# Altium footprint library Component.PcbLib: 79 footprints (part 2 of 5)
Each footprint in its own frame and in the unit in brackets; x right, y up, seen from the top. Pads: shape width x height; smd on the part's side, far side on the other; paste and mask are expansions set on the pad; w line width, h text height; cw(c..) or ccw(c..) is an arc to the next point about the centre after c.
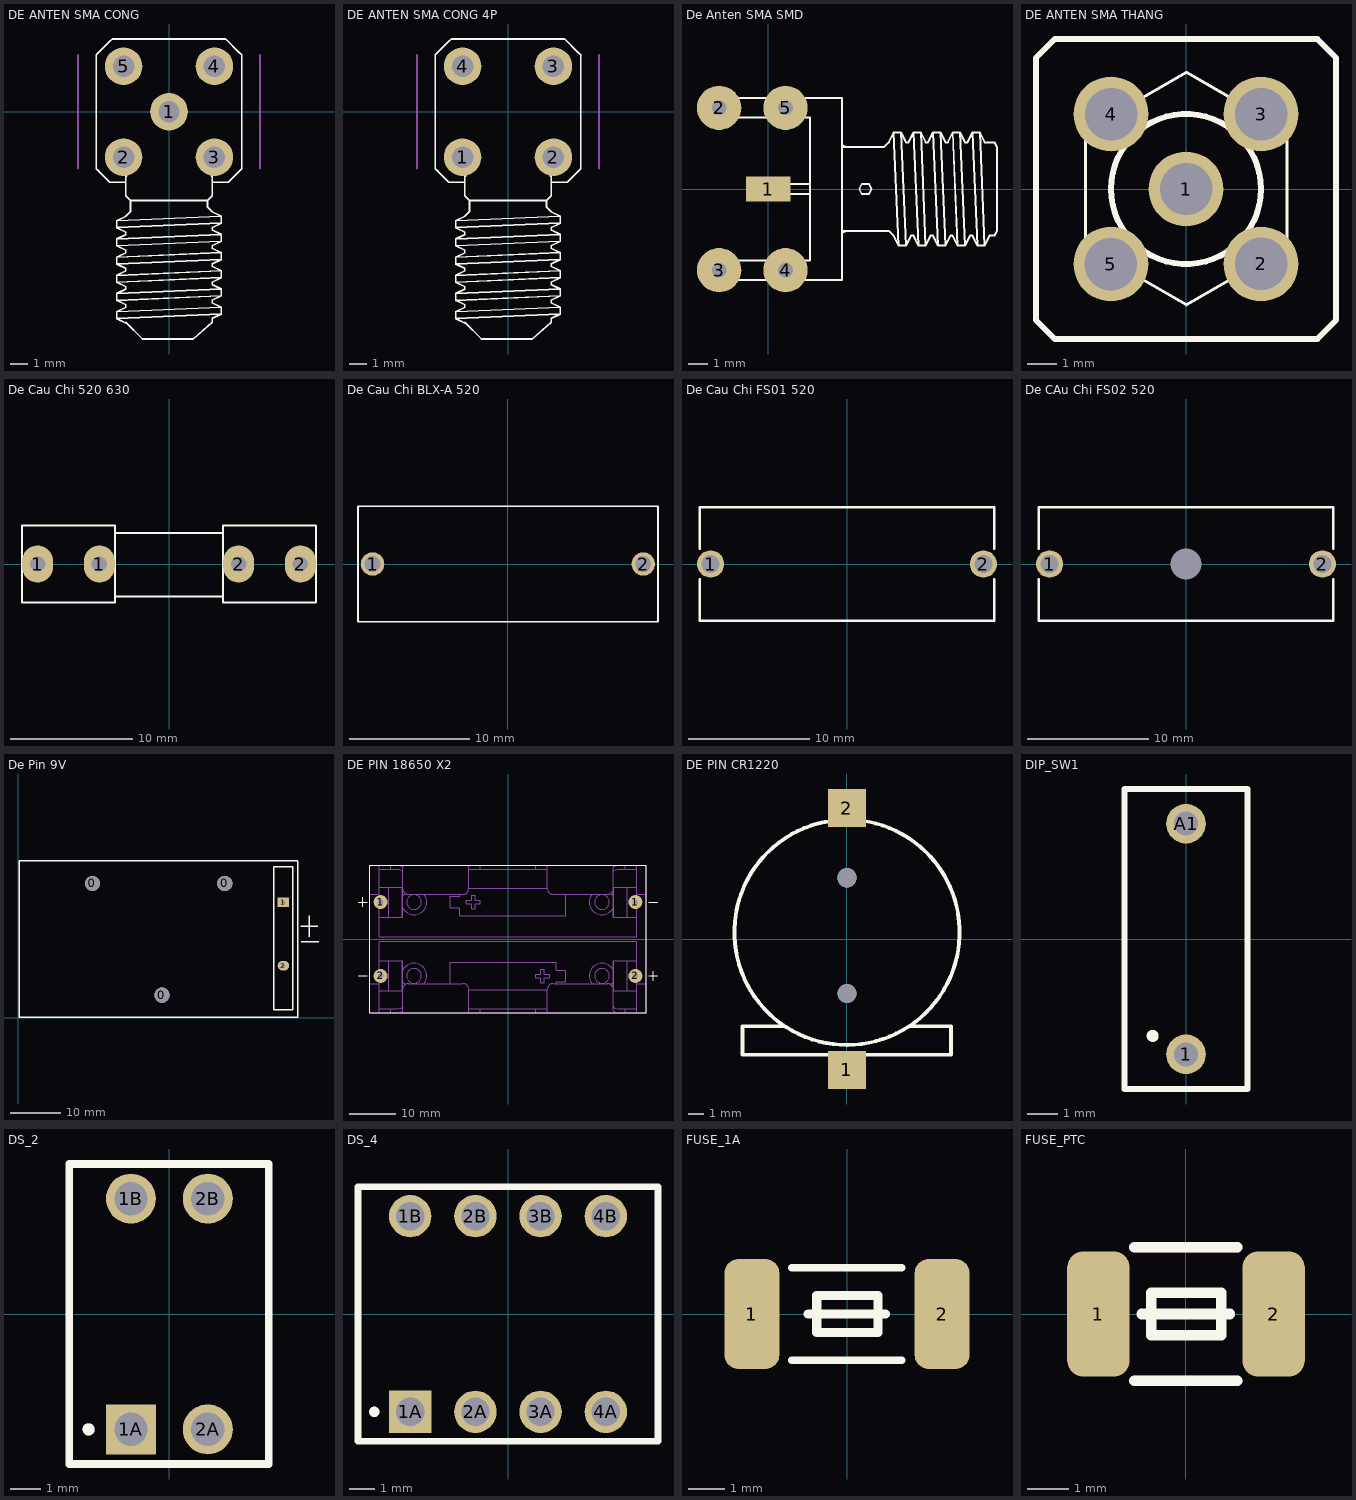
[diagram p1: the footprints below, top view; thin cyan lines are the x and y axes]

## DE ANTEN SMA CONG [mm]
pads (5):
  round 2.1 hole 1.2: 1(0,0) 2(-2.54,-2.54) 3(2.54,-2.54) 4(2.54,2.54) 5(-2.54,2.54)
Top Overlay:
  lines w0.102: -3.937,-3.302 -4.064,-3.175 ; -2.413,-11.811 -2.921,-11.557 ; -2.413,-11.769 -1.482,-12.7 1.355,-12.7 2.413,-11.769 2.413,-11.557 2.921,-11.303 ; -2.413,-3.937 -3.302,-3.937 -4.064,-3.175 ; -2.371,-3.598 -2.413,-3.556 -2.413,-4.699 -2.159,-4.953 ; 2.371,-3.598 2.413,-3.556 2.413,-4.699 2.159,-4.953 ; 2.413,-3.937 3.302,-3.937 4.064,-3.175 4.064,2.032 ; 4.064,1.905 4.064,3.175 3.937,3.302 3.175,4.064 -3.175,4.064 -3.302,3.937 -4.064,3.175 -4.064,-3.175 ; -2.921,-11.557 2.921,-11.303 ; -2.921,-11.557 -2.921,-11.176 ; -2.921,-11.176 2.921,-10.922 ; -2.921,-11.176 -2.413,-10.922 -2.413,-10.795 -2.921,-10.541 ; -2.921,-10.541 2.921,-10.287 ; -2.921,-10.541 -2.921,-10.16 ; -2.921,-10.16 2.921,-9.906 ; -2.921,-10.16 -2.413,-9.906 -2.413,-9.779 -2.921,-9.525 ; -2.921,-9.525 2.921,-9.271 ; -2.921,-9.525 -2.921,-9.144 ; -2.921,-9.144 2.921,-8.89 ; -2.921,-9.144 -2.413,-8.89 -2.413,-8.763 -2.921,-8.509 ; -2.921,-8.509 2.921,-8.255 ; -2.921,-8.509 -2.921,-8.128 ; -2.921,-8.128 2.921,-7.874 ; -2.921,-8.128 -2.413,-7.874 -2.413,-7.747 -2.921,-7.493 ; -2.921,-7.493 2.921,-7.239 ; -2.921,-7.493 -2.921,-7.112 ; -2.921,-7.112 2.921,-6.858 ; -2.921,-7.112 -2.413,-6.858 -2.413,-6.731 -2.921,-6.477 ; -2.921,-6.477 2.921,-6.223 ; -2.921,-6.477 -2.921,-6.096 ; -2.921,-6.096 2.921,-5.842 ; -2.921,-6.096 -2.413,-5.842 -2.159,-5.588 -2.159,-5.334 -2.159,-5.08 -2.159,-4.953 ; -2.159,-4.953 2.159,-4.953 ; 2.159,-4.953 2.159,-5.08 2.159,-5.334 2.413,-5.588 2.921,-5.842 ; 2.921,-11.303 2.921,-10.922 ; 2.921,-10.922 2.413,-10.668 2.413,-10.541 2.921,-10.287 ; 2.921,-10.287 2.921,-9.906 ; 2.921,-9.906 2.413,-9.652 2.413,-9.525 2.921,-9.271 ; 2.921,-9.271 2.921,-8.89 ; 2.921,-8.89 2.413,-8.636 2.413,-8.509 2.921,-8.255 ; 2.921,-8.255 2.921,-7.874 ; 2.921,-7.874 2.413,-7.62 2.413,-7.493 2.921,-7.239 ; 2.921,-7.239 2.921,-6.858 ; 2.921,-6.858 2.413,-6.604 2.413,-6.477 2.921,-6.223 ; 2.921,-6.223 2.921,-5.842
Mechanical 1:
  lines w0.102: -5.08,-3.175 -5.08,3.175 ; 5.08,-3.175 5.08,3.175
3D body "SMA-J-P-X-RA-TH1.step": height 10.39, standoff -3.41, extent -3.467,-11.62 3.533,3.48

## DE ANTEN SMA CONG 4P [mm]
pads (4):
  round 2.1 hole 1.2: 1(-2.54,-2.54) 2(2.54,-2.54) 3(2.54,2.54) 4(-2.54,2.54)
Top Overlay:
  lines w0.102: -3.937,-3.302 -4.064,-3.175 ; -2.413,-11.811 -2.921,-11.557 ; -2.413,-11.769 -1.482,-12.7 1.355,-12.7 2.413,-11.769 2.413,-11.557 2.921,-11.303 ; -2.413,-3.937 -3.302,-3.937 -4.064,-3.175 ; -2.371,-3.598 -2.413,-3.556 -2.413,-4.699 -2.159,-4.953 ; 2.371,-3.598 2.413,-3.556 2.413,-4.699 2.159,-4.953 ; 2.413,-3.937 3.302,-3.937 4.064,-3.175 4.064,2.032 ; 4.064,1.905 4.064,3.175 3.937,3.302 3.175,4.064 -3.175,4.064 -3.302,3.937 -4.064,3.175 -4.064,-3.175 ; -2.921,-11.557 2.921,-11.303 ; -2.921,-11.557 -2.921,-11.176 ; -2.921,-11.176 2.921,-10.922 ; -2.921,-11.176 -2.413,-10.922 -2.413,-10.795 -2.921,-10.541 ; -2.921,-10.541 2.921,-10.287 ; -2.921,-10.541 -2.921,-10.16 ; -2.921,-10.16 2.921,-9.906 ; -2.921,-10.16 -2.413,-9.906 -2.413,-9.779 -2.921,-9.525 ; -2.921,-9.525 2.921,-9.271 ; -2.921,-9.525 -2.921,-9.144 ; -2.921,-9.144 2.921,-8.89 ; -2.921,-9.144 -2.413,-8.89 -2.413,-8.763 -2.921,-8.509 ; -2.921,-8.509 2.921,-8.255 ; -2.921,-8.509 -2.921,-8.128 ; -2.921,-8.128 2.921,-7.874 ; -2.921,-8.128 -2.413,-7.874 -2.413,-7.747 -2.921,-7.493 ; -2.921,-7.493 2.921,-7.239 ; -2.921,-7.493 -2.921,-7.112 ; -2.921,-7.112 2.921,-6.858 ; -2.921,-7.112 -2.413,-6.858 -2.413,-6.731 -2.921,-6.477 ; -2.921,-6.477 2.921,-6.223 ; -2.921,-6.477 -2.921,-6.096 ; -2.921,-6.096 2.921,-5.842 ; -2.921,-6.096 -2.413,-5.842 -2.159,-5.588 -2.159,-5.334 -2.159,-5.08 -2.159,-4.953 ; -2.159,-4.953 2.159,-4.953 ; 2.159,-4.953 2.159,-5.08 2.159,-5.334 2.413,-5.588 2.921,-5.842 ; 2.921,-11.303 2.921,-10.922 ; 2.921,-10.922 2.413,-10.668 2.413,-10.541 2.921,-10.287 ; 2.921,-10.287 2.921,-9.906 ; 2.921,-9.906 2.413,-9.652 2.413,-9.525 2.921,-9.271 ; 2.921,-9.271 2.921,-8.89 ; 2.921,-8.89 2.413,-8.636 2.413,-8.509 2.921,-8.255 ; 2.921,-8.255 2.921,-7.874 ; 2.921,-7.874 2.413,-7.62 2.413,-7.493 2.921,-7.239 ; 2.921,-7.239 2.921,-6.858 ; 2.921,-6.858 2.413,-6.604 2.413,-6.477 2.921,-6.223 ; 2.921,-6.223 2.921,-5.842
Mechanical 1:
  lines w0.102: -5.08,-3.175 -5.08,3.175 ; 5.08,-3.175 5.08,3.175
3D body "SMA-J-P-X-RA-TH1.step": height 10.39, standoff -3.41, extent -3.467,-11.62 3.533,3.48

## De Anten SMA SMD [mil]
pads (5):
  rect 90x50 smd: 1(0,0)
  round 90 hole 30: 2(-100,165) 3(-100,-165) 4(35,-165) 5(35,165)
Top Overlay:
  lines w4: 10,-10 85,-10 ; 10,10 85,10 ; 150,-90 160,-85 ; 150,-85 200,-85 220,-85 225,-85 235,-85 245,-85 255,-95 265,-115 ; 150,85 200,85 220,85 225,85 235,85 245,95 255,115 ; 150,90 160,85 ; 255,115 270,115 ; 255,115 265,-115 ; 265,-115 280,-115 ; 270,115 280,95 285,95 ; 270,115 280,-115 ; 280,-115 290,-95 ; 285,95 295,115 ; 285,95 295,115 ; 290,-95 295,-95 ; 290,-95 295,-95 ; 295,-95 305,-115 ; 295,115 310,115 ; 295,115 305,-115 ; 305,-115 320,-115 ; 310,115 320,95 325,95 335,115 ; 310,115 320,-115 ; 320,-115 330,-95 335,-95 345,-115 ; 335,115 350,115 ; 335,115 345,-115 ; 345,-115 360,-115 ; 350,115 360,95 365,95 375,115 ; 350,115 360,-115 ; 360,-115 370,-95 375,-95 385,-115 ; 375,115 390,115 ; 375,115 385,-115 ; 385,-115 400,-115 ; 390,115 400,95 405,95 415,115 ; 390,115 400,-115 ; 400,-115 410,-95 415,-95 425,-115 ; 415,115 430,115 ; 415,115 425,-115 ; 425,-115 440,-115 ; 430,115 440,95 448.33,95 460,95 465,85 465,53.33 465,-58.33 465,-85 460,-95 450,-95 440,-115 ; 430,115 440,-115 ; -100,-185 -100,-145 85,-145 85,145 -100,145 -100,185 65,185 85,185 150,185 150,-185 -100,-185 ; 185,0 190,10 205,10 210,0 205,-10 190,-10 185,0
3D body "sma-endlaunch-wide.step": height 155.91, standoff -155.91, extent -103.24,-186 441.24,188.8

## DE ANTEN SMA THANG [mil]
pads (5):
  round 100 hole 70: 1(0,0) 2(100,-100) 3(100,100) 4(-100,100) 5(-100,-100)
Top Overlay:
  circle w8: c0,0 r25
  circle w8: c0,0 r100
  lines w4: -133.69,-76.91 0.55,-154.41 134.78,-76.91 134.78,78.09 0.55,155.59 -133.69,78.09 -133.69,-76.91
  lines w8: -200,-175 -200,150 -200,175 -175,200 175,200 200,175 200,-175 175,-200 -175,-200 -200,-175
3D body "SMA-J-P-X-ST-TH1.step": height 385.54, standoff -145.95, extent -138.3,-136.09 137.3,139.5

## De Cau Chi 520 630 [mil] "De Fuse"
pads (4):
  oval 100x120 hole 50: 1(-425,0) 1(-225,0) 2(225,0) 2(425,0)
Top Overlay:
  lines w7: -175,-105 175,-105 ; -175,100 175,100 ; -475,-125 -175,-125 -175,125 -475,125 -475,-125 ; 175,-125 175,125 475,125 475,-125 175,-125
3D body "SW3dPS-Fuse Leg_2009.STEP": height 377.88, standoff -129.94, extent -448,-117 -208,126.71
3D body "SW3dPS-Fuse Small 1A.STEP": height 370.39, standoff 169.61, extent -384.8,-98 390.8,102.79
3D body "SW3dPS-Fuse Leg_2009.STEP": height 377.88, standoff -129.94, extent 219,-116.71 459,127

## De Cau Chi BLX-A 520 [mm] "PCB - Clip Cover - THR"
height 12.6
pads (2):
  round 1.95 hole 1.3: 1(-11.25,0) 2(11.25,0)
Top Overlay:
  lines w0.127: -12.46,-4.8 -12.46,-2.54 -12.46,-2.34 -12.46,2.34 -12.46,4.8 12.465,4.8 12.465,-4.8 -12.46,-4.8
3D body "696103201002.stp": height 25, standoff -4.1, extent -12.4,-4.8 12.4,4.8

## De Cau Chi FS01 520 [mm] "FUSEHOLDER BLOCKS - PCB - CLIP COVER - THT - WR-FSH"
height 11.5
pads (2):
  round 2.25 hole 1.5: 1(-11.3,0) 2(11.3,0)
Top Overlay:
  lines w0.203: -12.192,-1.27 -12.192,-4.7 12.192,-4.7 12.192,-1.27 ; -12.192,1.27 -12.192,4.7 12.192,4.7 12.192,1.27
3D body "696108003002.stp": height 23.72, standoff -3.48, extent -12.2,-4.7 12.2,4.7

## De CAu Chi FS02 520 [mm] "FUSEHOLDER BLOCKS - PCB - CLIP COVER - THT - WR-FSH"
height 11.5
pads (3):
  round 2.25 hole 1.5: 1(-11.3,0) 2(11.3,0)
  round 0 hole 2.6 unplated: ""(0,0)
Top Overlay:
  lines w0.203: -12.192,-1.27 -12.192,-4.7 12.192,-4.7 12.192,-1.27 ; -12.192,1.27 -12.192,4.7 12.192,4.7 12.192,1.27
3D body "696107003002.stp": height 23.72, standoff -3.48, extent -12.2,-4.7 12.2,4.7

## De Pin 9V [mil]
pads (5):
  round 120 hole 120: 0(581.4,1052.4) 0(1126.9,175.9) 0(1620.4,1052.5)
  rect 90x75 hole 34: 1(2080.5,905.75)
  oval 90x75 hole 34: 2(2080.5,407.05)
Top Overlay:
  lines w10: 2193,1230.1 4.6,1230.1 4.6,3.1 2193.73,3.1 2193.73,1226.56 ; 2216.7,717.5 2351,717.5 ; 2221,595 2360,595 ; 2284.6,635.6 2284.6,799.3 ; 2005.5,60 2155.5,60 2155.5,1185 2005.5,1185 2005.5,60
Mechanical 1:
  lines w10: 283.75,183.25 283.8,183.29
3D body "User Library-PP3 9V battery holder.STEP": height 855.91, standoff 44.88, extent 27.27,19.55 2172.93,1210.5
3D body "User Library-9V Duracell Battery-1.STEP": height 894.49, standoff 205.51, extent 140.78,88.65 2050.23,1131.96

## DE PIN 18650 X2 [mil] "2-cell AA battery holder"
height 660
pads (4):
  round 120 hole 48: 1(-1086.61,314.96) 1(1086.61,314.96) 2(-1086.61,-314.96) 2(1086.61,-314.96)
Top Overlay:
  lines w5: -1279.53,-314.96 -1200.79,-314.96 ; -1279.53,314.96 -1200.79,314.96 ; -1240.16,275.59 -1240.16,354.33 ; 1200.79,-314.96 1279.53,-314.96 ; 1200.79,314.96 1279.53,314.96 ; 1240.16,-354.33 1240.16,-275.59
  lines w7.87: -1181.1,-629.92 -1181.1,629.92 1181.1,629.92 1181.1,-629.92 -1181.1,-629.92
Mechanical 13:
  drawing of 198 lines, arcs and shapes, not listed
3D body "2xAA Battery Holder.STEP": height 657.48, standoff -118.11, extent -1181.1,-629.91 1181.1,629.93
3D body "User Library-Battery-AAA.STEP": height 595.47, standoff 191.93, extent -918.03,-470 828.03,-66.45
3D body "User Library-Battery-AAA.STEP": height 595.47, standoff 191.93, extent -958.03,55 788.03,458.55

## DE PIN CR1220 [mm]
pads (2):
  rect 2.5x2.5 smd: 1(0,-8.6) 2(0,8.6)
via 0.005,-3.579 diameter 1.27 hole 1.27
via 0,4.026 diameter 1.27 hole 1.27
Top Overlay:
  lines w0.254: -4.194,-5.725 -6.868,-5.725 -6.868,-7.6 6.833,-7.6 6.833,-5.725 4.158,-5.725 ; -0.038,7.836 ccw(c0.005,0.439) 0,7.836
3D body "CR1220 SMD.STEP": height 4.27, standoff -0.48, extent -7.389,-9.42 7.36,9.38

## DIP_SW1 [mm]
pads (2):
  round 1.308 hole 0.8: 1(0,-3.81) A1(0,3.81)
Top Overlay:
  circle w0.2: c-1.1,-3.2 r0.1
  lines w0.2: -2.032,-4.953 2.032,-4.953 2.032,4.953 -2.032,4.953 -2.032,-4.953
3D body "DS1040-01 (DIP_switch).stp": height 6.8, standoff -3.85, extent -2,-4.94 2,4.96

## DS_2 [mm]
height 7
pads (4):
  rect 1.65x1.65 hole 1.1: 1A(-1.27,-3.81)
  round 1.65 hole 1.1: 1B(-1.27,3.81) 2A(1.27,-3.81) 2B(1.27,3.81)
Top Overlay:
  circle w0.2: c-2.667,-3.81 r0.1
  lines w0.254: -3.302,-4.953 -3.302,4.953 3.277,4.953 3.277,-4.953 -3.302,-4.953
Mechanical 13:
  circle w0.2: c-2.667,-3.81 r0.1
3D body "DS1040-02 (DIP_switch).stp": height 6.93, standoff -3.72, extent -3.27,-4.95 3.27,4.95

## DS_4 [mm]
height 7
pads (8):
  rect 1.65x1.65 hole 1.1: 1A(-3.81,-3.81)
  round 1.65 hole 1.1: 1B(-3.81,3.81) 2A(-1.27,-3.81) 2B(-1.27,3.81) 3A(1.27,-3.81) 3B(1.27,3.81) 4A(3.81,-3.81) 4B(3.81,3.81)
Top Overlay:
  circle w0.2: c-5.207,-3.81 r0.1
  lines w0.254: -5.842,-4.953 5.842,-4.953 5.842,4.953 -5.842,4.953 -5.842,-4.953
Mechanical 13:
  circle w0.2: c-5.207,-3.81 r0.1
3D body "DIP_SW-4P-T.stp": height 6.8, standoff -2.5, extent -5.83,-4.96 5.85,4.94

## FUSE_1A [mm]
pads (2):
  rrect50% 1.5x3 smd: 1(-2.6,0) 2(2.6,0)
Top Overlay:
  lines w0.203: -1.504,-1.27 -0.004,-1.27 1.496,-1.27 ; -1.504,1.27 -0.004,1.27 1.496,1.27
  lines w0.254: -1.059,0 1.05,0 ; -0.83,0.508 -0.83,-0.508 0.846,-0.508 0.846,0.508 -0.805,0.508
3D body "1808-2410 ?????.STEP": height 2.58, standoff 0.04, extent -3.054,-1.27 3.046,1.27

## FUSE_PTC [mm]
pads (2):
  rrect50% 1.5x3 smd: 1(-2.1,0) 2(2.1,0)
Top Overlay:
  lines w0.254: -1.236,-1.6 1.227,-1.6 ; -1.236,1.6 1.227,1.6 ; -1.059,0 1.05,0 ; -0.83,0.508 -0.83,-0.508 0.846,-0.508 0.846,0.508 -0.805,0.508
Mechanical 2:
  lines w0.254: -1.232,-1.6 1.232,-1.6 ; -1.232,1.6 1.232,1.6
  text "'.Designator'" at -4.445,2.245 h1.8
3D body "User Library-0ZCG-0_90mmPTC1812X0_5MM.STEP": height 0.55, standoff 0.05, extent -2.254,-1.6 2.246,1.6